# EAGLE library part 87368-40 (library con-molex-milli-grid)
RECEPTACAL
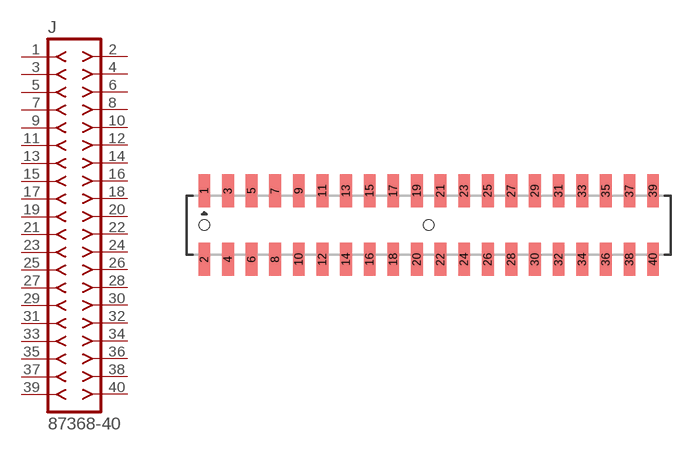
[diagram p199: symbol with the pads of 87368-40; footprint 87368-40]

Designator prefix J

## 87368-40  [87368-40]
1  1  pas
2  2  pas
3  3  pas
4  4  pas
5  5  pas
6  6  pas
7  7  pas
8  8  pas
9  9  pas
10  10  pas
11  11  pas
12  12  pas
13  13  pas
14  14  pas
15  15  pas
16  16  pas
17  17  pas
18  18  pas
19  19  pas
20  20  pas
21  21  pas
22  22  pas
23  23  pas
24  24  pas
25  25  pas
26  26  pas
27  27  pas
28  28  pas
29  29  pas
30  30  pas
31  31  pas
32  32  pas
33  33  pas
34  34  pas
35  35  pas
36  36  pas
37  37  pas
38  38  pas
39  39  pas
40  40  pas

## Footprint 87368-40 (pad centres in mm)
RECEPTACAL SMD Dual Row, Side Entry
smd 1 x 2.8: 1 -19,2.9; 2 -19,-2.9; 3 -17,2.9; 4 -17,-2.9; 5 -15,2.9; 6 -15,-2.9; 7 -13,2.9; 8 -13,-2.9; 9 -11,2.9; 10 -11,-2.9; 11 -9,2.9; 12 -9,-2.9; 13 -7,2.9; 14 -7,-2.9; 15 -5,2.9; 16 -5,-2.9; 17 -3,2.9; 18 -3,-2.9; 19 -1,2.9; 20 -1,-2.9; 21 1,2.9; 22 1,-2.9; 23 3,2.9; 24 3,-2.9; 25 5,2.9; 26 5,-2.9; 27 7,2.9; 28 7,-2.9; 29 9,2.9; 30 9,-2.9; 31 11,2.9; 32 11,-2.9; 33 13,2.9; 34 13,-2.9; 35 15,2.9; 36 15,-2.9; 37 17,2.9; 38 17,-2.9; 39 19,2.9; 40 19,-2.9
hole 0.914 at -19,0
hole 0.914 at 0,0